# EAGLE library part USB-A_TOP (library systas0)
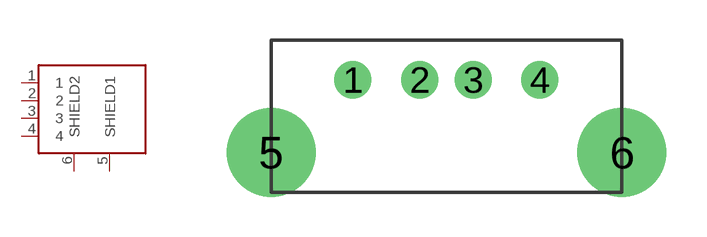
[diagram p18: symbol with the pads of USB-A_TOP; footprint USB-A_TOP]

Designator prefix -

## USB-A_TOP  [USB-A_TOP]
1  1
2  2
3  3
4  4
5  SHIELD1
6  SHIELD2

## Footprint USB-A_TOP (pad centres in mm)
drill 0.889: 1 -3.505,2.718; 2 -1.003,2.718; 3 1.003,2.718; 4 3.493,2.718
drill 2.311: 5 -6.566,0; 6 6.566,0